# Altium schematic symbol library XC7A35T底板.SCHLIB: 39 symbols
Pins are listed as number, name and electrical type; pins without a type are passive.

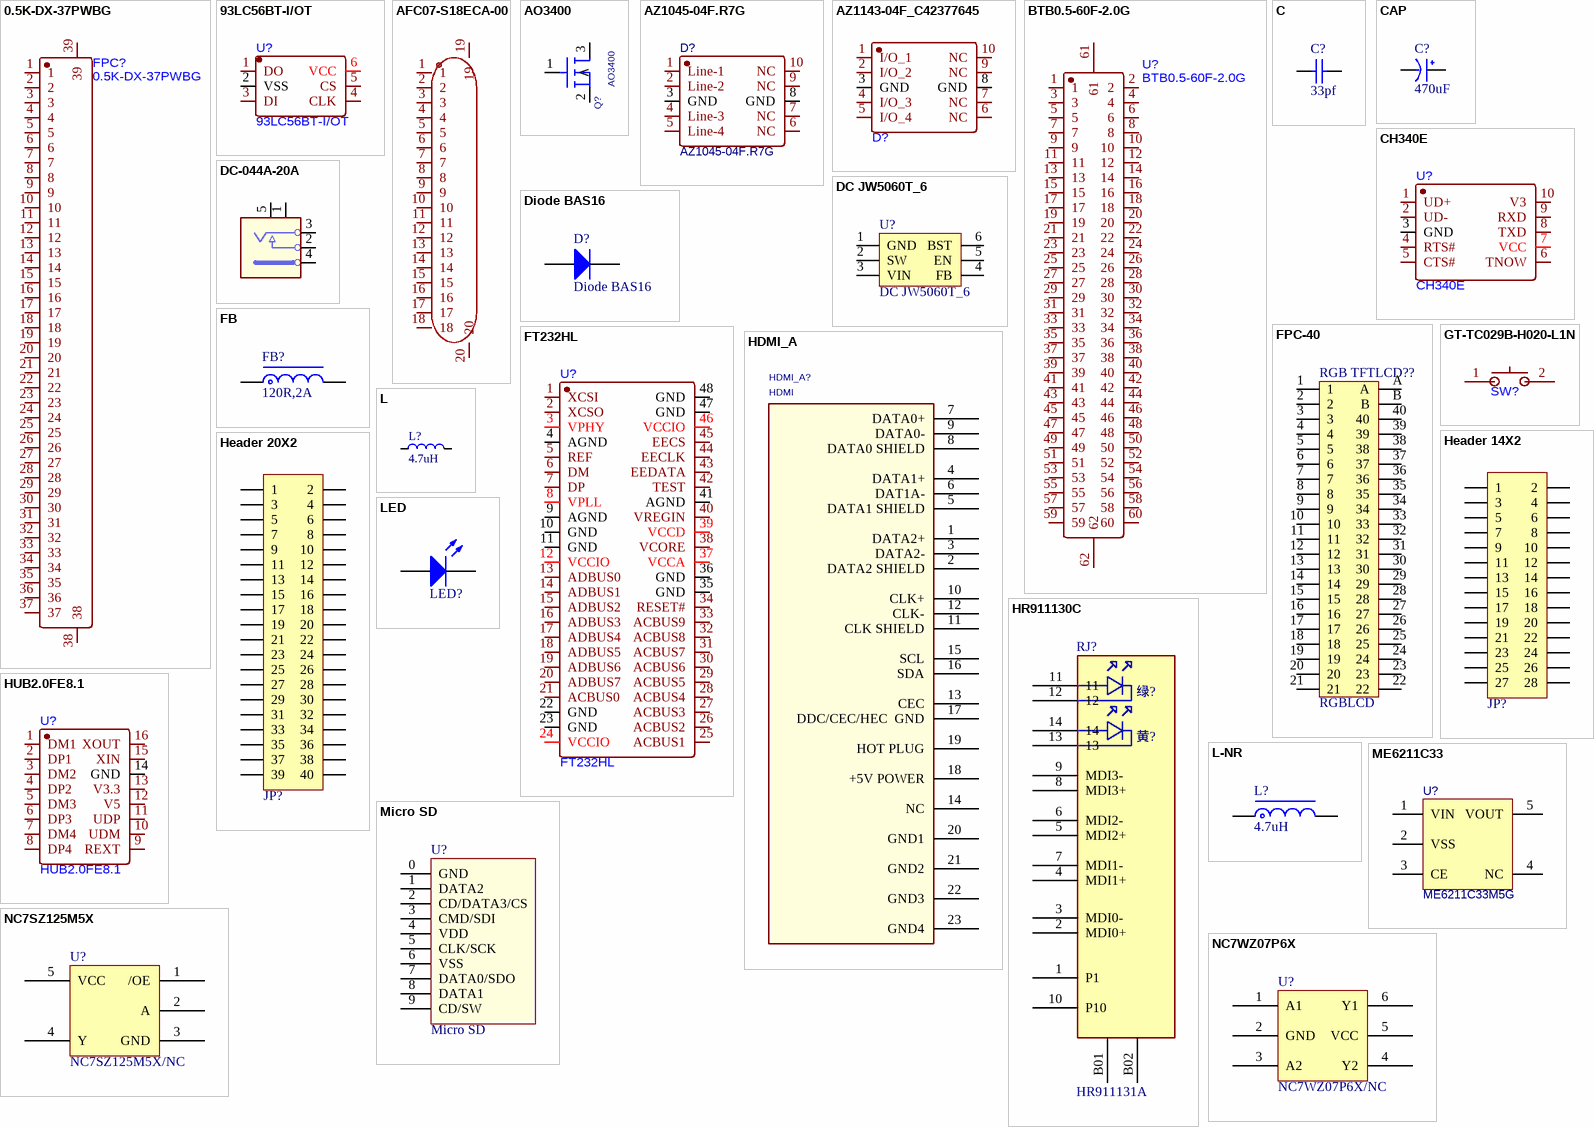
[diagram p0: symbols 0.5K-DX-37PWBG to NC7WZ07P6X]

## 0.5K-DX-37PWBG
designator FPC?
footprint FPC-SMD_37P-P0.50_DEALON_0.5K-DX-37PWB
pins: 1, 2, 3, 4, 5, 6, 7, 8, 9, 10, 11, 12, 13, 14, 15, 16, 17, 18, 19, 20, 21, 22, 23, 24, 25, 26, 27, 28, 29, 30, 31, 32, 33, 34, 35, 36, 37, 38, 39

## 93LC56BT-I/OT
designator U?
footprint SOT-23-6_L2.9-W1.6-P0.95-LS2.8-BR
pins: 1 DO, 2 VSS, 3 DI, 4 CLK, 5 CS, 6 VCC

## AFC07-S18ECA-00
designator X?  (value not drawn)
footprint FPC-SMD_AFC07-S18ECA-00
pins: 1, 2, 3, 4, 5, 6, 7, 8, 9, 10, 11, 12, 13, 14, 15, 16, 17, 18, 19, 20

## AO3400
designator Q?
footprint SOT23
pins: 1 G, 2 S, 3 D

## AZ1045-04F.R7G
designator D?
footprint DFN2510P10E
pins: 1 Line-1, 2 Line-2, 3 GND, 4 Line-3, 5 Line-4, 6 NC, 7 NC, 8 GND, 9 NC, 10 NC

## AZ1143-04F_C42377645
designator D?  (value not drawn)
footprint DFN-10_L2.5-W1.0-P0.50-BL-A
pins: 1 I/O_1, 2 I/O_2, 3 GND, 4 I/O_3, 5 I/O_4, 6 NC, 7 NC, 8 GND, 9 NC, 10 NC

## BTB0.5-60F-2.0G
designator U?
footprint CONN-SMD_60P-P0.50_BTB0.5-60F-2.0G
pins: 1, 2, 3, 4, 5, 6, 7, 8, 9, 10, 11, 12, 13, 14, 15, 16, 17, 18, 19, 20, 21, 22, 23, 24, 25, 26, 27, 28, 29, 30, 31, 32, 33, 34, 35, 36, 37, 38, 39, 40, 41, 42, 43, 44, 45, 46, 47, 48, 49, 50, 51, 52, 53, 54, 55, 56, 57, 58, 59, 60, 61, 62

## C
designator C?, comment 33pf
贴片电容/MLCC电容
footprint C0402_L (贴片MLCC电容)
footprint C0603_L (贴片MLCC电容)
footprint C0805_L (贴片MLCC电容)
pins: 1, 2

## CAP
designator C?, comment 470uF
footprint CM D(6.3*5.4)
pins: 1 VCC, 2 GND

## CH340E
designator U?
footprint MSOP-10_L3.0-W3.0-P0.50-LS5.0-BL
pins: 1 UD+, 2 UD-, 3 GND, 4 RTS#, 5 CTS#, 6 TNOW, 7 VCC, 8 TXD, 9 RXD, 10 V3

## DC JW5060T_6
designator U?
DC降压芯片
footprint SOT23-6N (3x1.6x1.1mm(长宽高))
pins: 1 GND, 2 SW, 3 VIN, 4 FB, 5 EN, 6 BST

## DC-044A-20A
designator DC_IN?  (value not drawn)
footprint dc_in_th_3p_10r1x11r6
pins: 1, 2, 3, 4, 5

## Diode BAS16
designator D?
Silicon Switching Diode for High-Speed Switching
footprint SOT-23_N (SOT23, 3-Leads, Body 2.9x1.3mm, Pitch 0.95mm, Lead Span 2.5mm, IPC Medium Density)
pins: 1 A, 3 K

## FB
designator FB?, comment 120R,2A
贴片磁珠
footprint FB0603 (0603贴片磁珠)
pins: 1, 2

## FPC-40
designator RGB TFTLCD??, comment RGBLCD
FPC-40P-0.5mm
footprint FPC-TOP40 (FPCTOP;0.5mm;)
pins: 1, 2, 3, 4, 5, 6, 7, 8, 9, 10, 11, 12, 13, 14, 15, 16, 17, 18, 19, 20, 21, 22, 23, 24, 25, 26, 27, 28, 29, 30, 31, 32, 33, 34, 35, 36, 37, 38, 39, 40, A, B

## FT232HL
designator U?
footprint LQFP-48_L7.0-W7.0-P0.50-LS9.0-TL
pins: 1 XCSI, 2 XCSO, 3 VPHY, 4 AGND, 5 REF, 6 DM, 7 DP, 8 VPLL, 9 AGND, 10 GND, 11 GND, 12 VCCIO, 13 ADBUS0, 14 ADBUS1, 15 ADBUS2, 16 ADBUS3, 17 ADBUS4, 18 ADBUS5, 19 ADBUS6, 20 ADBUS7, 21 ACBUS0, 22 GND, 23 GND, 24 VCCIO, 25 ACBUS1, 26 ACBUS2, 27 ACBUS3, 28 ACBUS4, 29 ACBUS5, 30 ACBUS6, 31 ACBUS7, 32 ACBUS8, 33 ACBUS9, 34 RESET#, 35 GND, 36 GND, 37 VCCA, 38 VCORE, 39 VCCD, 40 VREGIN, 41 AGND, 42 TEST, 43 EEDATA, 44 EECLK, 45 EECS, 46 VCCIO, 47 GND, 48 GND

## GT-TC029B-H020-L1N
designator SW?  (value not drawn)
footprint SW-SMD_L3.9-W2.9-P4.15-LS5.0
pins: 1, 2

## HDMI_A
designator HDMI_A?, comment HDMI
footprint HDMI_SMD_A
pins: 1 DATA2+, 2 DATA2 SHIELD, 3 DATA2-, 4 DATA1+, 5 DATA1 SHIELD, 6 DAT1A-, 7 DATA0+, 8 DATA0 SHIELD, 9 DATA0-, 10 CLK+, 11 CLK SHIELD, 12 CLK-, 13 CEC, 14 NC, 15 SCL, 16 SDA, 17 DDC/CEC/HEC  GND, 18 +5V POWER, 19 HOT PLUG, 20 GND1, 21 GND2, 22 GND3, 23 GND4

## Header 14X2
designator JP?, comment Header 2X11  (value not drawn)
14*2P接插件
footprint HDR2.54-LI-2x14P (双排排针，14x2脚)
pins: 1, 2, 3, 4, 5, 6, 7, 8, 9, 10, 11, 12, 13, 14, 15, 16, 17, 18, 19, 20, 21, 22, 23, 24, 25, 26, 27, 28

## Header 20X2
designator JP?, comment Header 2X11  (value not drawn)
20*2P接插件
footprint HDR2.54-LI-2x20P (双排排针，20x2脚)
pins: 1, 2, 3, 4, 5, 6, 7, 8, 9, 10, 11, 12, 13, 14, 15, 16, 17, 18, 19, 20, 21, 22, 23, 24, 25, 26, 27, 28, 29, 30, 31, 32, 33, 34, 35, 36, 37, 38, 39, 40

## HR911130C
designator RJ?, comment HR911131A
RJ45 + MAG
footprint HR911130C_RJ45
pins: 1 P1, 2 MDI0+, 3 MDI0-, 4 MDI1+, 5 MDI2+, 6 MDI2-, 7 MDI1-, 8 MDI3+, 9 MDI3-, 10 P10, 11, 12, 13, 14, B01, B02
text: 绿?; 黄?

## HUB2.0FE8.1
designator U?
footprint SSOP-16_L4.9-W3.9-P0.64-LS6.0-BL
pins: 1 DM1, 2 DP1, 3 DM2, 4 DP2, 5 DM3, 6 DP3, 7 DM4, 8 DP4, 9 REXT, 10 UDM, 11 UDP, 12 V5, 13 V3.3, 14 GND, 15 XIN, 16 XOUT

## L
designator L?, comment 4.7uH
小功率贴片电感磁珠
footprint L-2520 (贴片电感-2520)
pins: 1, 2

## L-NR
designator L?, comment 4.7uH
L-2520-4.7uH-20%-1.2A(屏蔽,SWPA)
footprint NR2520 (2.5mm*2.0mm*1.0mm(长*宽*高）)
pins: 1, 2

## LED
designator LED?, comment 绿色  (value not drawn)
贴片LED
footprint LED0805_G (绿色0805LED)
pins: 1 A, 2 K

## ME6211C33
designator U?, comment ME6211C33M5G
LDO 3.3V/0.5A
footprint SOT-23-5 (SOT23, 5-Leads, Body 2.9x1.6mm, Pitch 0.95mm, IPC Medium Density)
pins: 1 VIN, 2 VSS, 3 CE, 4 NC, 5 VOUT

## Micro SD
designator U?
Micro SD卡
footprint Micro SD
pins: 0 GND, 1 DATA2, 2 CD/DATA3/CS, 3 CMD/SDI, 4 VDD, 5 CLK/SCK, 6 VSS, 7 DATA0/SDO, 8 DATA1, 9 CD/SW

## NC7SZ125M5X
designator U?, comment NC7SZ125M5X/NC
footprint NC7SZ125M5X
pins: 1 /OE, 2 A, 3 GND, 4 Y, 5 VCC

## NC7WZ07P6X
designator U?, comment NC7WZ07P6X/NC
footprint NC7WZ07P6X
pins: 1 A1, 2 GND, 3 A2, 4 Y2, 5 VCC, 6 Y1

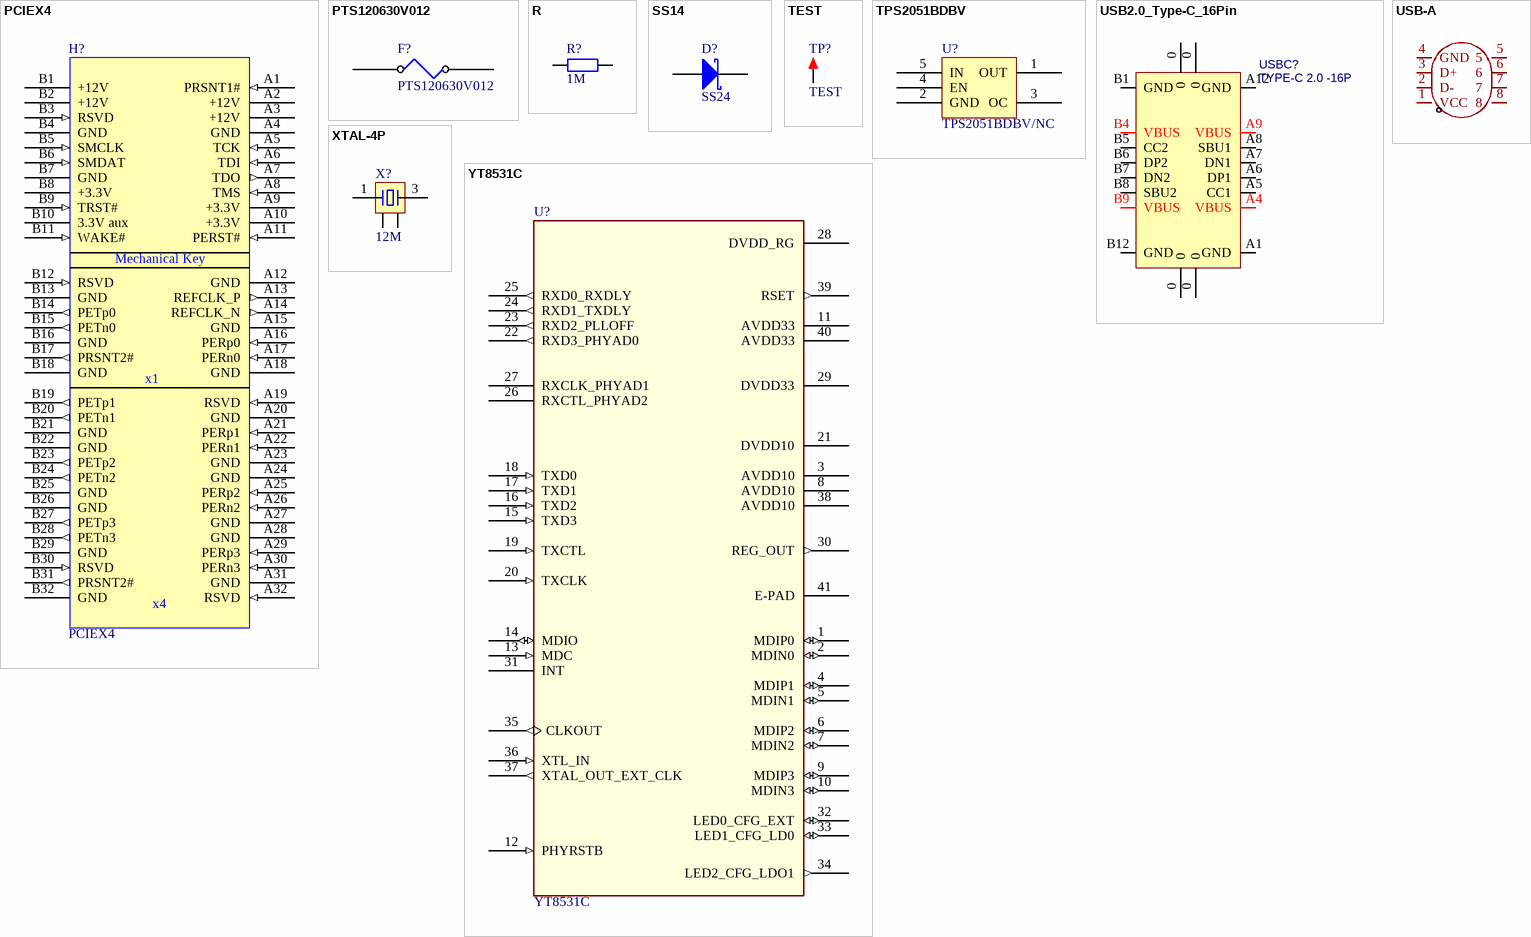
[diagram p1: symbols PCIEX4 to YT8531C]

## PCIEX4
designator H?
footprint PCIEX4
pins: A1 PRSNT1# (in), A2 +12V (power), A3 +12V (power), A4 GND (power), A5 TCK (in), A6 TDI (in), A7 TDO (out), A8 TMS (in), A9 +3.3V (power), A10 +3.3V (power), A11 PERST# (in), A12 GND (power), A13 REFCLK_P (out), A14 REFCLK_N (out), A15 GND (power), A16 PERp0 (in), A17 PERn0 (in), A18 GND (power), A19 RSVD (in), A20 GND (power), A21 PERp1 (in), A22 PERn1 (in), A23 GND (power), A24 GND (power), A25 PERp2 (in), A26 PERn2 (in), A27 GND (power), A28 GND (power), A29 PERp3 (in), A30 PERn3 (in), A31 GND (power), A32 RSVD (in), B1 +12V (power), B2 +12V (power), B3 RSVD (in), B4 GND (power), B5 SMCLK (in), B6 SMDAT (in), B7 GND (power), B8 +3.3V (power), B9 TRST# (in), B10 3.3V aux (power), B11 WAKE# (in), B12 RSVD (in), B13 GND (power), B14 PETp0 (out), B15 PETn0 (out), B16 GND (power), B17 PRSNT2# (out), B18 GND (power), B19 PETp1 (out), B20 PETn1 (out), B21 GND (power), B22 GND (power), B23 PETp2 (out), B24 PETn2 (out), B25 GND (power), B26 GND (power), B27 PETp3 (out), B28 PETn3 (out), B29 GND (power), B30 RSVD (in), B31 PRSNT2# (out), B32 GND (power)
text: Mechanical Key; x1; x4

## PTS120630V012
designator F?
footprint FU 1206
pins: 1, 2

## R
designator R?, comment 1M
贴片电阻
footprint R0402_L (1/16W贴片电阻)
footprint R0603_L (1/10W贴片电阻)
pins: 1, 2

## SS14
designator D?, comment SS24
肖特基二极管
footprint SMA (4.5x2.6*2.2mm（长宽高，不包括引脚）)
pins: 1 A, 2 K

## TEST
designator TP?
测试点
footprint TEST 1.6 (测试点1.6mm)
pins: 1

## TPS2051BDBV
designator U?, comment TPS2051BDBV/NC
footprint TPS2051BDBV
pins: 1 OUT, 2 GND, 3 OC, 4 EN, 5 IN

## USB2.0_Type-C_16Pin
designator USBC?, comment TYPE-C 2.0 -16P
USB2.0_Type-C_16Pin母座
footprint USB-C-SMD_16P
pins: 0, 0, 0, 0, A1 GND, A4 VBUS, A5 CC1, A6 DP1, A7 DN1, A8 SBU1, A9 VBUS, A12 GND, B1 GND, B4 VBUS, B5 CC2, B6 DP2, B7 DN2, B8 SBU2, B9 VBUS, B12 GND

## USB-A
designator USB?  (value not drawn)
footprint USB-A
pins: 1 VCC, 2 D-, 3 D+, 4 GND, 5, 6, 7, 8

## XTAL-4P
designator X?, comment 12M
4脚无源晶振(谐振器）
footprint XTAL-3225-4P (3.2*2.5*0.7mm(长宽高))
pins: 1, 2, 3, 4

## YT8531C
designator U?
千兆以太网PHY
footprint QFN40 5X5_N (40脚，体宽：5x5mm，脚距：0.4mm)
pins: 1 MDIP0 (io), 2 MDIN0 (io), 3 AVDD10 (power), 4 MDIP1 (io), 5 MDIN1 (io), 6 MDIP2 (io), 7 MDIN2 (io), 8 AVDD10 (power), 9 MDIP3 (io), 10 MDIN3 (io), 11 AVDD33 (power), 12 PHYRSTB (in), 13 MDC (in), 14 MDIO (io), 15 TXD3 (in), 16 TXD2 (in), 17 TXD1 (in), 18 TXD0 (in), 19 TXCTL (in), 20 TXCLK (in), 21 DVDD10 (power), 22 RXD3_PHYAD0 (out), 23 RXD2_PLLOFF (out), 24 RXD1_TXDLY (out), 25 RXD0_RXDLY (out), 26 RXCTL_PHYAD2, 27 RXCLK_PHYAD1, 28 DVDD_RG (power), 29 DVDD33 (power), 30 REG_OUT (out), 31 INT, 32 LED0_CFG_EXT (io), 33 LED1_CFG_LD0 (io), 34 LED2_CFG_LDO1 (out), 35 CLKOUT (out), 36 XTL_IN (in), 37 XTAL_OUT_EXT_CLK (out), 38 AVDD10 (power), 39 RSET (out), 40 AVDD33 (power), 41 E-PAD (power)